# EAGLE library part CLM-140-02-L-D-K (library MOTO_LIB)
MICRO SOCKET, 1.0MM pitch, SMD, 2X40WAY, Female
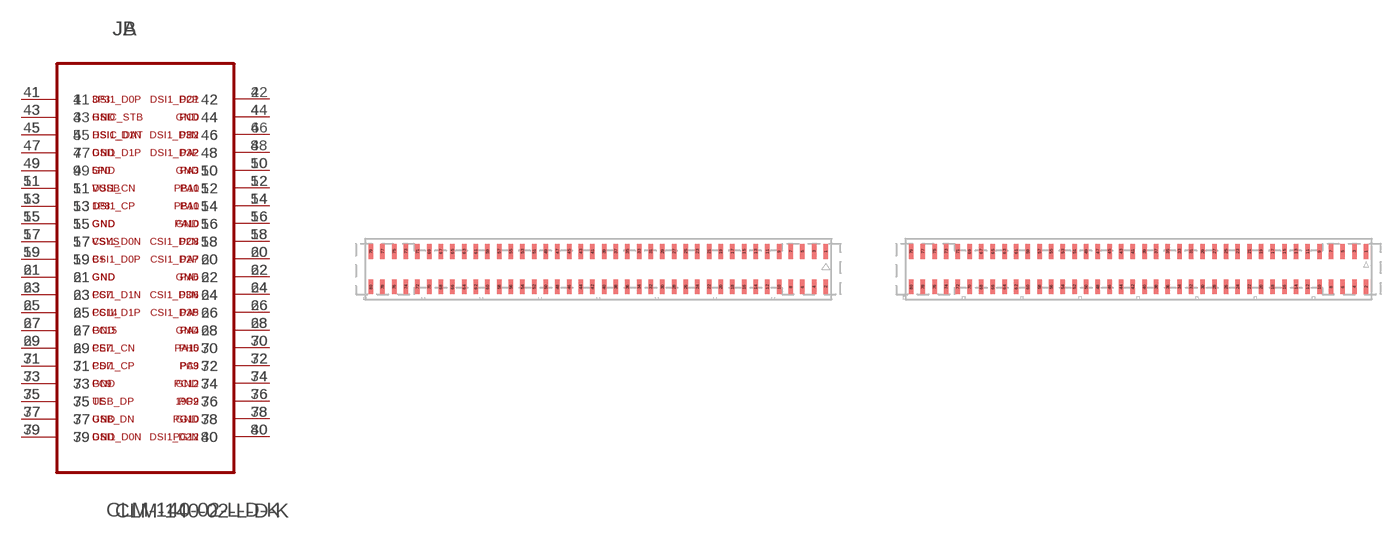
[diagram p11: symbol with the pads of SAMTEC_CLM-140-02-L-D-K; footprints SAMTEC_CLM-140-02-L-D-K, CLM-140-02-L-D-K_GOLD]

Designator prefix J; gates A=CLM-140-02-L-D-K_A B=CLM-140-02-L-D-K_B

## CLM-140-02-L-D-KSOLDER (MPN: CLM-140-02-L-D-K; SUPPLIER: SAMTEC)  [SAMTEC_CLM-140-02-L-D-K]
1  A:1  pas
2  A:2  pas
3  A:3  pas
4  A:4  pas
5  A:5  pas
6  A:6  pas
7  A:7  pas
8  A:8  pas
9  A:9  pas
10  A:10  pas
11  A:11  pas
12  A:12  pas
13  A:13  pas
14  A:14  pas
15  A:15  pas
16  A:16  pas
17  A:17  pas
18  A:18  pas
19  A:19  pas
20  A:20  pas
21  A:21  pas
22  A:22  pas
23  A:23  pas
24  A:24  pas
25  A:25  pas
26  A:26  pas
27  A:27  pas
28  A:28  pas
29  A:29  pas
30  A:30  pas
31  A:31  pas
32  A:32  pas
33  A:33  pas
34  A:34  pas
35  A:35  pas
36  A:36  pas
37  A:37  pas
38  A:38  pas
39  A:39  pas
40  A:40  pas
41  B:41  pas
42  B:42  pas
43  B:43  pas
44  B:44  pas
45  B:45  pas
46  B:46  pas
47  B:47  pas
48  B:48  pas
49  B:49  pas
50  B:50  pas
51  B:51  pas
52  B:52  pas
53  B:53  pas
54  B:54  pas
55  B:55  pas
56  B:56  pas
57  B:57  pas
58  B:58  pas
59  B:59  pas
60  B:60  pas
61  B:61  pas
62  B:62  pas
63  B:63  pas
64  B:64  pas
65  B:65  pas
66  B:66  pas
67  B:67  pas
68  B:68  pas
69  B:69  pas
70  B:70  pas
71  B:71  pas
72  B:72  pas
73  B:73  pas
74  B:74  pas
75  B:75  pas
76  B:76  pas
77  B:77  pas
78  B:78  pas
79  B:79  pas
80  B:80  pas

## CLM-140-02-L-D-KGOLD (MPN: CLM-140-02-L-D-K; SUPPLIER: SAMTEC)  [CLM-140-02-L-D-K_GOLD]
Pads as for SAMTEC_CLM-140-02-L-D-K

## Footprint SAMTEC_CLM-140-02-L-D-K (pad centres in mm)
smd 0.38 x 1.27: 1 19.5,1.52; 2 19.5,-1.52; 3 18.5,1.52; 4 18.5,-1.52; 5 17.5,1.52; 6 17.5,-1.52; 7 16.5,1.52; 8 16.5,-1.52; 9 15.5,1.52; 10 15.5,-1.52; 11 14.5,1.52; 12 14.5,-1.52; 13 13.5,1.52; 14 13.5,-1.52; 15 12.5,1.52; 16 12.5,-1.52; 17 11.5,1.52; 18 11.5,-1.52; 19 10.5,1.52; 20 10.5,-1.52; 21 9.5,1.52; 22 9.5,-1.52; 23 8.5,1.52; 24 8.5,-1.52; 25 7.5,1.52; 26 7.5,-1.52; 27 6.5,1.52; 28 6.5,-1.52; 29 5.5,1.52; 30 5.5,-1.52; 31 4.5,1.52; 32 4.5,-1.52; 33 3.5,1.52; 34 3.5,-1.52; 35 2.5,1.52; 36 2.5,-1.52; 37 1.5,1.52; 38 1.5,-1.52; 39 0.5,1.52; 40 0.5,-1.52; 41 -0.5,1.52; 42 -0.5,-1.52; 43 -1.5,1.52; 44 -1.5,-1.52; 45 -2.5,1.52; 46 -2.5,-1.52; 47 -3.5,1.52; 48 -3.5,-1.52; 49 -4.5,1.52; 50 -4.5,-1.52; 51 -5.5,1.52; 52 -5.5,-1.52; 53 -6.5,1.52; 54 -6.5,-1.52; 55 -7.5,1.52; 56 -7.5,-1.52; 57 -8.5,1.52; 58 -8.5,-1.52; 59 -9.5,1.52; 60 -9.5,-1.52; 61 -10.5,1.52; 62 -10.5,-1.52; 63 -11.5,1.52; 64 -11.5,-1.52; 65 -12.5,1.52; 66 -12.5,-1.52; 67 -13.5,1.52; 68 -13.5,-1.52; 69 -14.5,1.52; 70 -14.5,-1.52; 71 -15.5,1.52; 72 -15.5,-1.52; 73 -16.5,1.52; 74 -16.5,-1.52; 75 -17.5,1.52; 76 -17.5,-1.52; 77 -18.5,1.52; 78 -18.5,-1.52; 79 -19.5,1.52; 80 -19.5,-1.52

## Footprint CLM-140-02-L-D-K_GOLD (pad centres in mm)
smd 0.38 x 1.27: 1 19.5,1.52; 2 19.5,-1.52; 3 18.5,1.52; 4 18.5,-1.52; 5 17.5,1.52; 6 17.5,-1.52; 7 16.5,1.52; 8 16.5,-1.52; 9 15.5,1.52; 10 15.5,-1.52; 11 14.5,1.52; 12 14.5,-1.52; 13 13.5,1.52; 14 13.5,-1.52; 15 12.5,1.52; 16 12.5,-1.52; 17 11.5,1.52; 18 11.5,-1.52; 19 10.5,1.52; 20 10.5,-1.52; 21 9.5,1.52; 22 9.5,-1.52; 23 8.5,1.52; 24 8.5,-1.52; 25 7.5,1.52; 26 7.5,-1.52; 27 6.5,1.52; 28 6.5,-1.52; 29 5.5,1.52; 30 5.5,-1.52; 31 4.5,1.52; 32 4.5,-1.52; 33 3.5,1.52; 34 3.5,-1.52; 35 2.5,1.52; 36 2.5,-1.52; 37 1.5,1.52; 38 1.5,-1.52; 39 0.5,1.52; 40 0.5,-1.52; 41 -0.5,1.52; 42 -0.5,-1.52; 43 -1.5,1.52; 44 -1.5,-1.52; 45 -2.5,1.52; 46 -2.5,-1.52; 47 -3.5,1.52; 48 -3.5,-1.52; 49 -4.5,1.52; 50 -4.5,-1.52; 51 -5.5,1.52; 52 -5.5,-1.52; 53 -6.5,1.52; 54 -6.5,-1.52; 55 -7.5,1.52; 56 -7.5,-1.52; 57 -8.5,1.52; 58 -8.5,-1.52; 59 -9.5,1.52; 60 -9.5,-1.52; 61 -10.5,1.52; 62 -10.5,-1.52; 63 -11.5,1.52; 64 -11.5,-1.52; 65 -12.5,1.52; 66 -12.5,-1.52; 67 -13.5,1.52; 68 -13.5,-1.52; 69 -14.5,1.52; 70 -14.5,-1.52; 71 -15.5,1.52; 72 -15.5,-1.52; 73 -16.5,1.52; 74 -16.5,-1.52; 75 -17.5,1.52; 76 -17.5,-1.52; 77 -18.5,1.52; 78 -18.5,-1.52; 79 -19.5,1.52; 80 -19.5,-1.52